# Altium integrated library inductor-coilcraft.IntLib: 2 symbols
Pins are listed as number, name and electrical type; pins without a type are passive.

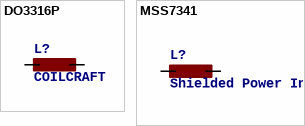
[diagram p0: symbols DO3316P to MSS7341]

## DO3316P
designator L?, comment COILCRAFT
OC_FARNELL: unknown; OC_NEWARK: unknown
footprint DO3316P
pins: 1, 2

## MSS7341
designator L?, comment Shielded Power Inductors   Package 6.6 × 6.6 mm x 4.1 mm high Source: http://www.farnell.com/datasheets/1681958.pdf
footprint MSS7341
pins: 1, 2